# Altium footprint library libreriaPcb.PcbLib: 683 footprints (part 25 of 44)
Each footprint in its own frame and in the unit in brackets; x right, y up, seen from the top. Pads: shape width x height; smd on the part's side, far side on the other; paste and mask are expansions set on the pad; w line width, h text height; cw(c..) or ccw(c..) is an arc to the next point about the centre after c.
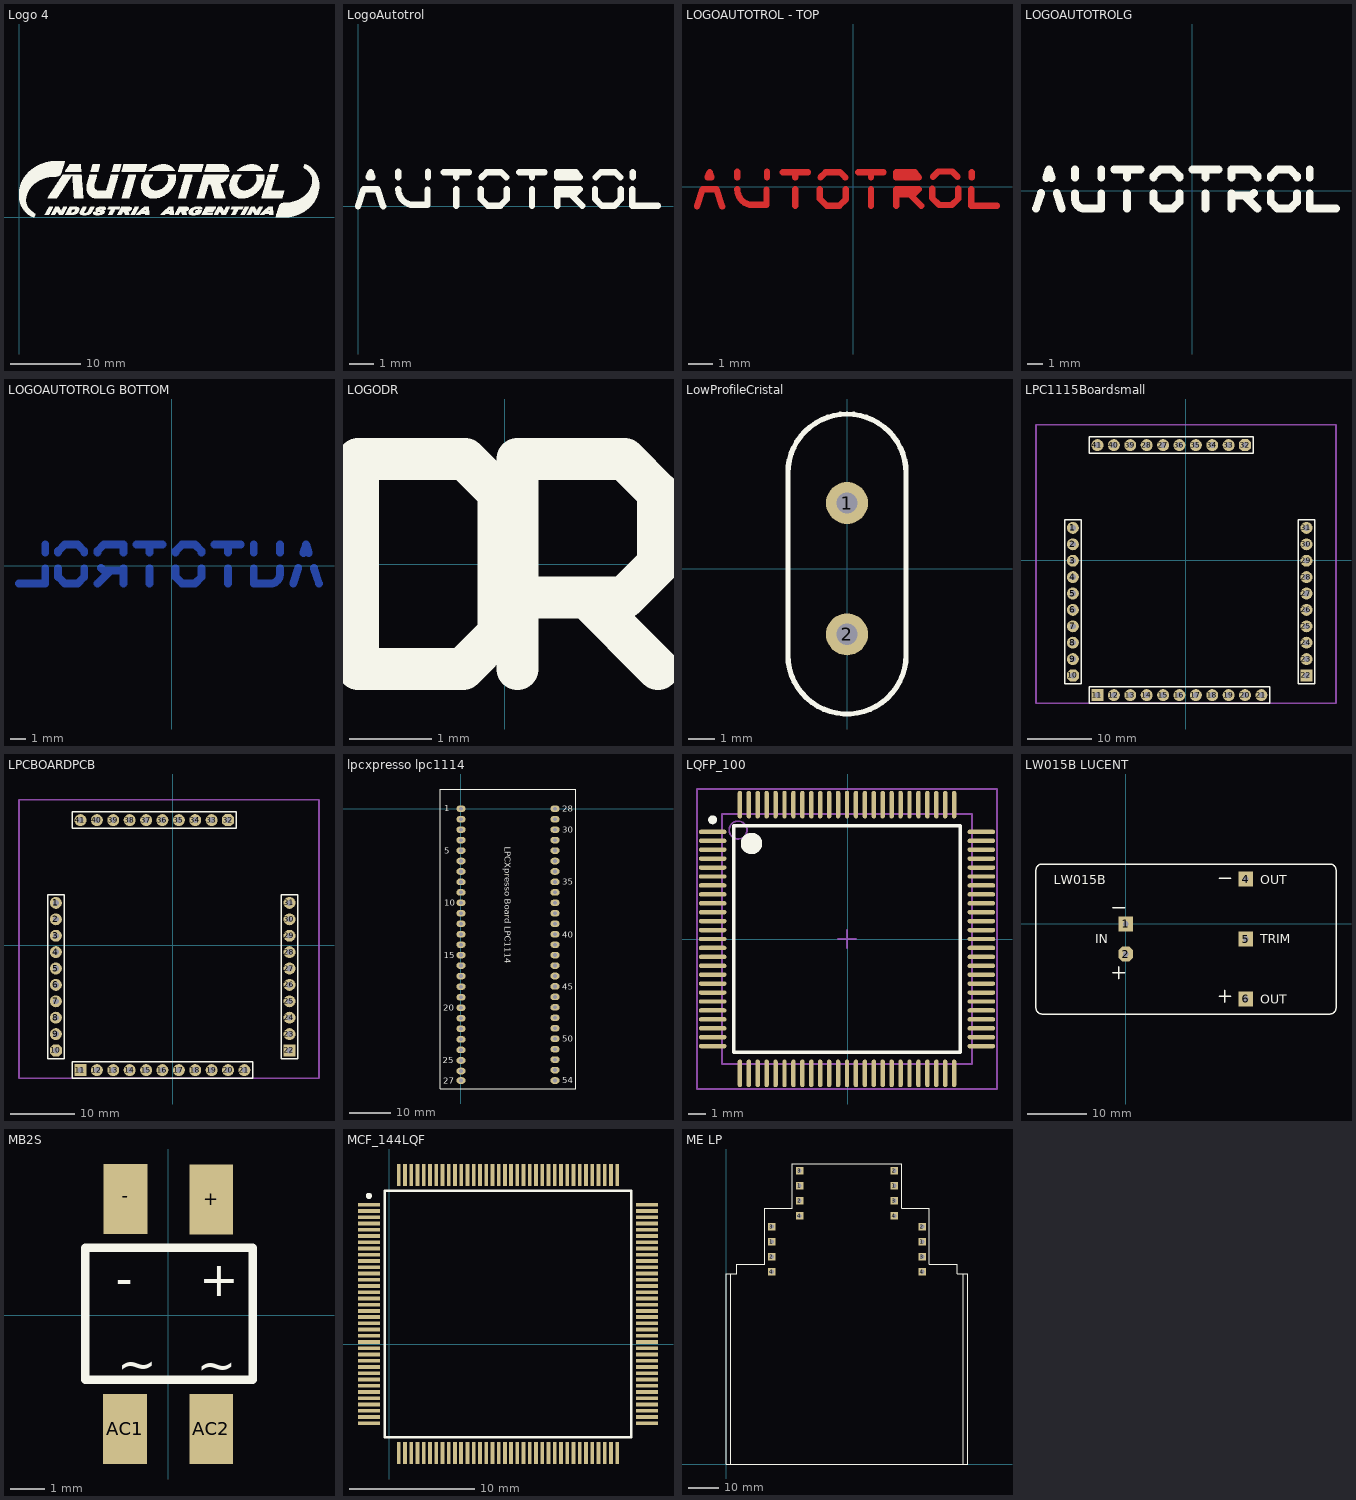
[diagram p24: the footprints below, top view; thin cyan lines are the x and y axes]

## Logo 4 [mm]
Top Overlay:
  drawing of 3600 lines, arcs and shapes, not listed

## LOGO_AUTO [mm]
height 1
Top Overlay:
  lines w0.508: 0,0 0.33,1.016 ; 0.66,1.981 0.838,2.54 1.016,1.981 ; 1.346,1.016 1.676,0 ; 2.54,0.584 2.54,0.991 ; 2.54,2.007 2.54,2.54 ; 2.549,0.609 ccw(c3.124,0.576) 3.124,0 4.242,0 4.242,0.991 ; 4.242,2.007 4.242,2.54 ; 5.08,2.54 6.782,2.54 ; 5.918,0 5.918,0.991 ; 5.918,2.007 5.918,2.54 ; 7.62,0.432 8.052,0 ; 7.62,0.457 7.62,0.991 ; 7.62,2.007 7.62,2.083 ; 7.62,2.108 8.052,2.54 8.865,2.54 ; 8.077,0 8.89,0 9.322,0.432 ; 8.89,2.54 9.322,2.108 ; 9.322,0.457 9.322,0.991 ; 9.322,2.007 9.322,2.083 ; 10.16,2.54 11.862,2.54 ; 10.998,0 10.998,0.991 ; 10.998,2.007 10.998,2.54 ; 12.7,0 12.7,0.991 ; 12.7,0.838 13.97,0.838 14.148,1.016 ; 12.7,2.007 12.7,2.54 13.97,2.54 14.376,2.134 14.376,2.007 ; 13.564,0.813 14.376,0 ; 15.24,0.432 15.672,0 ; 15.24,0.457 15.24,0.991 ; 15.24,2.007 15.24,2.083 ; 15.24,2.108 15.672,2.54 16.485,2.54 ; 15.697,0 16.51,0 16.942,0.432 ; 16.51,2.54 16.942,2.108 ; 16.942,0.457 16.942,0.991 ; 16.942,2.007 16.942,2.083 ; 17.78,0.991 17.78,0 19.482,0 ; 17.78,2.007 17.78,2.54 ; 2183.976,2674.027 2184.306,2675.043 ; 2184.636,2676.008 2184.814,2676.567 2184.992,2676.008 ; 2185.322,2675.043 2185.652,2674.027 ; 2186.516,2674.611 2186.516,2675.018 ; 2186.516,2676.034 2186.516,2676.567 ; 2186.525,2674.636 ccw(c2187.1,2674.603) 2187.1,2674.027 2188.218,2674.027 2188.218,2675.018 ; 2188.218,2676.034 2188.218,2676.567 ; 2189.056,2676.567 2190.758,2676.567 ; 2189.894,2674.027 2189.894,2675.018 ; 2189.894,2676.034 2189.894,2676.567 ; 2191.596,2674.459 2192.028,2674.027 ; 2191.596,2674.484 2191.596,2675.018 ; 2191.596,2676.034 2191.596,2676.11 ; 2191.596,2676.135 2192.028,2676.567 2192.841,2676.567 ; 2192.053,2674.027 2192.866,2674.027 2193.298,2674.459 ; 2192.866,2676.567 2193.298,2676.135 ; 2193.298,2674.484 2193.298,2675.018 ; 2193.298,2676.034 2193.298,2676.11 ; 2194.136,2676.567 2195.838,2676.567 ; 2194.974,2674.027 2194.974,2675.018 ; 2194.974,2676.034 2194.974,2676.567 ; 2196.676,2674.027 2196.676,2675.018 ; 2196.676,2674.865 2197.946,2674.865 2198.124,2675.043 ; 2196.676,2676.034 2196.676,2676.567 2197.946,2676.567 2198.352,2676.161 2198.352,2676.034 ; 2197.54,2674.84 2198.352,2674.027 ; 2199.216,2674.459 2199.648,2674.027 ; 2199.216,2674.484 2199.216,2675.018 ; 2199.216,2676.034 2199.216,2676.11 ; 2199.216,2676.135 2199.648,2676.567 2200.461,2676.567 ; 2199.673,2674.027 2200.486,2674.027 2200.918,2674.459 ; 2200.486,2676.567 2200.918,2676.135 ; 2200.918,2674.484 2200.918,2675.018 ; 2200.918,2676.034 2200.918,2676.11 ; 2201.756,2675.018 2201.756,2674.027 2203.458,2674.027 ; 2201.756,2676.034 2201.756,2676.567 ; 2321.007,1659.943 2321.337,1660.959 ; 2321.667,1661.924 2321.845,1662.483 2322.023,1661.924 ; 2322.353,1660.959 2322.683,1659.943 ; 2323.547,1660.527 2323.547,1660.934 ; 2323.547,1661.95 2323.547,1662.483 ; 2323.556,1660.552 ccw(c2324.131,1660.519) 2324.131,1659.943 2325.249,1659.943 2325.249,1660.934 ; 2325.249,1661.95 2325.249,1662.483 ; 2326.087,1662.483 2327.789,1662.483 ; 2326.925,1659.943 2326.925,1660.934 ; 2326.925,1661.95 2326.925,1662.483 ; 2328.627,1660.375 2329.059,1659.943 ; 2328.627,1660.4 2328.627,1660.934 ; 2328.627,1661.95 2328.627,1662.026 ; 2328.627,1662.051 2329.059,1662.483 2329.872,1662.483 ; 2329.084,1659.943 2329.897,1659.943 2330.329,1660.375 ; 2329.897,1662.483 2330.329,1662.051 ; 2330.329,1660.4 2330.329,1660.934 ; 2330.329,1661.95 2330.329,1662.026 ; 2331.167,1662.483 2332.869,1662.483 ; 2332.005,1659.943 2332.005,1660.934 ; 2332.005,1661.95 2332.005,1662.483 ; 2333.707,1659.943 2333.707,1660.934 ; 2333.707,1660.781 2334.977,1660.781 2335.155,1660.959 ; 2333.707,1661.95 2333.707,1662.483 2334.977,1662.483 2335.383,1662.077 2335.383,1661.95 ; 2334.571,1660.756 2335.383,1659.943 ; 2336.247,1660.375 2336.679,1659.943 ; 2336.247,1660.4 2336.247,1660.934 ; 2336.247,1661.95 2336.247,1662.026 ; 2336.247,1662.051 2336.679,1662.483 2337.492,1662.483 ; 2336.704,1659.943 2337.517,1659.943 2337.949,1660.375 ; 2337.517,1662.483 2337.949,1662.051 ; 2337.949,1660.4 2337.949,1660.934 ; 2337.949,1661.95 2337.949,1662.026 ; 2338.787,1660.934 2338.787,1659.943 2340.489,1659.943 ; 2338.787,1661.95 2338.787,1662.483

## LogoAutotrol [mm]
Top Overlay:
  lines w0.254: 0,0 0.229,0.686 0.787,0.686 1.016,0 ; 1.625,0.686 ccw(c2.261,0.686) 2.112,0.068 2.802,0.068 2.802,0.677 ; 1.626,1.168 1.626,1.397 ; 2.819,1.168 2.819,1.397 ; 3.454,1.372 3.962,1.372 ; 3.962,0.025 3.962,0.686 ; 3.962,1.168 3.962,1.372 ; 4.47,1.372 3.962,1.372 ; 4.953,0.686 4.953,0.305 5.232,0.025 5.74,0.025 5.994,0.279 5.994,0.686 ; 4.978,1.168 5.182,1.372 5.766,1.372 5.969,1.168 ; 6.502,1.372 7.01,1.372 ; 7.01,0.025 7.01,0.686 ; 7.01,1.168 7.01,1.372 ; 7.518,1.372 7.01,1.372 ; 8.026,0.025 8.026,0.686 8.941,0.686 8.661,0.406 ; 8.026,0.483 8.585,0.483 8.661,0.406 ; 9.042,0.025 8.661,0.406 ; 9.55,0.686 9.55,0.305 9.83,0.025 10.338,0.025 10.592,0.279 10.592,0.686 ; 9.576,1.168 9.779,1.372 10.363,1.372 10.566,1.168 ; 11.049,0.686 11.049,0.025 12.09,0.025 ; 11.074,1.168 11.074,1.372 ; 0.432,1.168 0.584,1.168 ; 0.432,1.168 0.508,1.372 0.584,1.168 ; 0.432,1.168 0.584,1.168 ; 8.026,1.168 8.026,1.372 8.788,1.372 8.941,1.168 8.026,1.168

## LOGOAUTOTROL - TOP [mm]
Top Layer:
  lines w0.254: -6.3,-0.8 -6.071,-0.114 -5.513,-0.114 -5.284,-0.8 ; -4.675,-0.114 ccw(c-4.039,-0.114) -4.188,-0.732 -3.498,-0.732 -3.498,-0.123 ; -4.674,0.368 -4.674,0.597 ; -3.481,0.368 -3.481,0.597 ; -2.846,0.572 -2.338,0.572 ; -2.338,-0.775 -2.338,-0.114 ; -2.338,0.368 -2.338,0.572 ; -1.83,0.572 -2.338,0.572 ; -1.347,-0.114 -1.347,-0.495 -1.068,-0.775 -0.56,-0.775 -0.306,-0.521 -0.306,-0.114 ; -1.322,0.368 -1.118,0.572 -0.534,0.572 -0.331,0.368 ; 0.202,0.572 0.71,0.572 ; 0.71,-0.775 0.71,-0.114 ; 0.71,0.368 0.71,0.572 ; 1.218,0.572 0.71,0.572 ; 1.726,-0.775 1.726,-0.114 2.641,-0.114 2.361,-0.394 ; 1.726,-0.317 2.285,-0.317 2.361,-0.394 ; 2.742,-0.775 2.361,-0.394 ; 3.184,-0.083 3.184,-0.464 3.463,-0.743 3.971,-0.743 4.225,-0.489 4.225,-0.083 ; 3.209,0.4 3.413,0.603 3.997,0.603 4.2,0.4 ; 4.749,-0.114 4.749,-0.775 5.79,-0.775 ; 4.774,0.368 4.774,0.572 ; -5.868,0.368 -5.716,0.368 ; -5.868,0.368 -5.716,0.368 ; -5.868,0.368 -5.792,0.572 -5.716,0.368 ; 1.726,0.368 2.641,0.368 2.488,0.572 1.726,0.572 1.726,0.368

## LOGOAUTOTROLG [mm]
Top Overlay:
  lines w0.508: -10.16,-1.143 -9.83,-0.127 ; -9.5,0.838 -9.322,1.397 -9.144,0.838 ; -8.814,-0.127 -8.484,-1.143 ; -7.62,-0.559 -7.62,-0.152 ; -7.62,0.864 -7.62,1.397 ; -7.611,-0.534 ccw(c-7.036,-0.567) -7.036,-1.143 -5.918,-1.143 -5.918,-0.152 ; -5.918,0.864 -5.918,1.397 ; -5.08,1.397 -3.378,1.397 ; -4.242,-1.143 -4.242,-0.152 ; -4.242,0.864 -4.242,1.397 ; -2.54,-0.711 -2.108,-1.143 ; -2.54,-0.686 -2.54,-0.152 ; -2.54,0.864 -2.54,0.94 ; -2.54,0.965 -2.108,1.397 -1.295,1.397 ; -2.083,-1.143 -1.27,-1.143 -0.838,-0.711 ; -1.27,1.397 -0.838,0.965 ; -0.838,-0.686 -0.838,-0.152 ; -0.838,0.864 -0.838,0.94 ; 0,1.397 1.702,1.397 ; 0.838,-1.143 0.838,-0.152 ; 0.838,0.864 0.838,1.397 ; 2.54,-1.143 2.54,-0.152 ; 2.54,-0.305 3.81,-0.305 3.988,-0.127 ; 2.54,0.864 2.54,1.397 3.81,1.397 4.216,0.991 4.216,0.864 ; 3.404,-0.33 4.216,-1.143 ; 5.08,-0.711 5.512,-1.143 ; 5.08,-0.686 5.08,-0.152 ; 5.08,0.864 5.08,0.94 ; 5.08,0.965 5.512,1.397 6.325,1.397 ; 5.537,-1.143 6.35,-1.143 6.782,-0.711 ; 6.35,1.397 6.782,0.965 ; 6.782,-0.686 6.782,-0.152 ; 6.782,0.864 6.782,0.94 ; 7.62,-0.152 7.62,-1.143 9.322,-1.143 ; 7.62,0.864 7.62,1.397

## LOGOAUTOTROLG BOTTOM [mm]
height 23.3
Bottom Layer:
  lines w0.508: -9.922,-1.143 -8.22,-1.143 -8.22,-0.152 ; -8.22,0.864 -8.22,1.397 ; -7.382,-0.711 -6.95,-1.143 -6.137,-1.143 ; -7.382,-0.686 -7.382,-0.152 ; -7.382,0.864 -7.382,0.94 ; -7.382,0.965 -6.95,1.397 ; -6.925,1.397 -6.112,1.397 -5.68,0.965 ; -6.112,-1.143 -5.68,-0.711 ; -5.68,-0.686 -5.68,-0.152 ; -5.68,0.864 -5.68,0.94 ; -4.816,-1.143 -4.004,-0.33 ; -4.816,0.864 -4.816,0.991 -4.41,1.397 -3.14,1.397 -3.14,0.864 ; -4.588,-0.127 -4.41,-0.305 -3.14,-0.305 ; -3.14,-1.143 -3.14,-0.152 ; -2.302,1.397 -0.6,1.397 ; -1.438,-1.143 -1.438,-0.152 ; -1.438,0.864 -1.438,1.397 ; 0.238,-0.711 0.67,-1.143 1.483,-1.143 ; 0.238,-0.686 0.238,-0.152 ; 0.238,0.864 0.238,0.94 ; 0.238,0.965 0.67,1.397 ; 0.695,1.397 1.508,1.397 1.94,0.965 ; 1.508,-1.143 1.94,-0.711 ; 1.94,-0.686 1.94,-0.152 ; 1.94,0.864 1.94,0.94 ; 2.778,1.397 4.48,1.397 ; 3.642,-1.143 3.642,-0.152 ; 3.642,0.864 3.642,1.397 ; 5.318,-0.152 5.318,-1.143 6.436,-1.143 ccw(c6.436,-0.567) 7.011,-0.534 ; 5.318,0.864 5.318,1.397 ; 7.02,-0.559 7.02,-0.152 ; 7.02,0.864 7.02,1.397 ; 7.884,-1.143 8.214,-0.127 ; 8.544,0.838 8.722,1.397 8.9,0.838 ; 9.23,-0.127 9.56,-1.143

## LOGODR [mm]
Top Overlay:
  lines w0.508: -0.508,1.27 -1.778,1.27 -1.778,-1.27 -0.508,-1.27 -0.076,-0.838 -0.076,0.864 -0.483,1.27 ; 0.152,-1.27 0.152,1.27 1.422,1.27 ; 0.356,-0.406 1.448,-0.406 1.854,0 1.854,0.864 1.448,1.27 ; 0.991,-0.406 1.854,-1.27

## LowProfileCristal [mm]
pads (2):
  round 1.6 hole 0.813: 1(0,2.5) 2(0,-2.5)
Top Overlay:
  lines w0.2: -2.25,-3.294 ccw(c0,-3.282) 2.25,-3.29 2.25,3.625 ccw(c0,3.638) -2.25,3.625 -2.25,-3.294
3D body: height 1, standoff 0, extent -2.277,-5.586 2.2,5.916
3D body: height 4, standoff 1, extent -2.044,-5.368 1.98,5.669

## LPC1115Boardsmall [mm]
pads (41):
  round 1.85 hole 0.9 paste+0: 1(-17.45,4.978) 2(-17.45,2.438) 3(-17.45,-0.102) 4(-17.45,-2.642) 5(-17.45,-5.182) 6(-17.45,-7.722) 7(-17.45,-10.262) 8(-17.45,-12.802) 9(-17.45,-15.342) 27(-3.48,17.805) 28(-6.02,17.805) 33(6.68,17.805) 34(4.14,17.805) 35(1.6,17.805) 36(-0.94,17.805) 39(-8.56,17.805) 40(-11.1,17.805) 41(-13.64,17.805)
  oct 1.85x1.85 hole 0.9: 10(-17.45,-17.882)
  rect 1.85x1.85 hole 0.9: 11(-13.64,-20.93) 22(18.745,-17.882)
  round 1.85 hole 0.9: 12(-11.1,-20.93) 13(-8.56,-20.93) 14(-6.02,-20.93) 15(-3.48,-20.93) 16(-0.94,-20.93) 17(1.6,-20.93) 18(4.14,-20.93) 19(6.68,-20.93) 20(9.22,-20.93) 21(11.76,-20.93) 23(18.745,-15.342) 24(18.745,-12.802) 25(18.745,-10.262) 26(18.745,-7.722) 27(18.745,-5.182) 28(18.745,-2.642) 29(18.745,-0.102) 30(18.745,2.438) 31(18.745,4.978)
  oct 1.85x1.85 hole 0.9 paste+0: 32(9.22,17.805)
Top Layer:
  lines w0.5: -17.704,-12.802 cw(c-17.577,-12.802) -17.577,-12.675 ; -17.704,-10.262 cw(c-17.577,-10.262) -17.577,-10.135
Top Overlay:
  lines w0.2: -18.72,-19.152 -18.72,6.248 -16.18,6.248 -16.18,-17.247 -16.18,-19.152 -18.72,-19.152 ; -14.91,-22.2 13.03,-22.2 13.03,-19.66 -13.005,-19.66 -14.91,-19.66 -14.91,-22.2 ; -14.91,16.535 8.585,16.535 10.49,16.535 10.49,19.075 -14.91,19.075 -14.91,16.535 ; 17.475,-19.152 20.015,-19.152 20.015,6.248 17.475,6.248 17.475,-17.247 17.475,-19.152
Mechanical 1:
  lines w0.254: -17.45,-22.2 20.015,-22.2 ; -13.64,17.805 -13.386,17.805 -13.132,18.059 ; -23.165,-22.2 -23.165,20.98 23.317,20.98 23.317,-22.2 -23.165,-22.2
3D body: height 7.35, standoff 7.25, extent 0.435,-3.299 0.835,-2.899
3D body: height 7, standoff 6, extent 5.847,-10.897 6.147,-9.144
3D body: height 7, standoff 6, extent 5.362,-10.884 5.662,-9.131
3D body: height 7, standoff 6, extent 4.854,-10.897 5.154,-9.144
3D body: height 7, standoff 6, extent 4.346,-10.897 4.646,-9.144
3D body: height 7, standoff 6, extent 3.838,-10.897 4.138,-9.144
3D body: height 7, standoff 6, extent 3.358,-10.897 3.658,-9.144
3D body: height 7, standoff 6, extent 2.847,-10.897 3.147,-9.144
3D body: height 7, standoff 6, extent 2.339,-10.897 2.639,-9.144
3D body: height 7, standoff 6, extent 1.857,-10.897 2.157,-9.144
3D body: height 7, standoff 6, extent 1.349,-10.897 1.649,-9.144
3D body: height 7, standoff 6, extent 0.838,-10.897 1.138,-9.144
3D body: height 7, standoff 6, extent 0.356,-10.897 0.656,-9.144
3D body: height 6.25, standoff 6, extent 5.844,-2.007 6.144,-0.254
3D body: height 6.25, standoff 6, extent 5.336,-2.007 5.636,-0.254
3D body: height 6.25, standoff 6, extent 4.854,-2.007 5.154,-0.254
3D body: height 6.25, standoff 6, extent 4.346,-2.007 4.646,-0.254
3D body: height 6.25, standoff 6, extent 3.863,-2.007 4.163,-0.254
3D body: height 6.25, standoff 6, extent 3.355,-2.007 3.655,-0.254
3D body: height 6.25, standoff 6, extent 2.845,-2.007 3.145,-0.254
3D body: height 6.25, standoff 6, extent 2.365,-2.007 2.665,-0.254
3D body: height 6.25, standoff 6, extent 1.857,-2.007 2.157,-0.254
3D body: height 6.25, standoff 6, extent 1.349,-2.007 1.649,-0.254
3D body: height 6.25, standoff 6, extent 0.866,-2.007 1.166,-0.254
3D body: height 6.25, standoff 6, extent 0.335,-2.007 0.635,-0.254
3D body: height 7, standoff 6, extent 6.782,-8.456 8.534,-8.156
3D body: height 7, standoff 6, extent 6.782,-7.976 8.534,-7.676
3D body: height 7, standoff 6, extent 6.782,-7.465 8.534,-7.165
3D body: height 7, standoff 6, extent 6.795,-6.957 8.547,-6.657
3D body: height 7, standoff 6, extent 6.795,-6.475 8.547,-6.175
3D body: height 7, standoff 6, extent 6.794,-5.969 8.547,-5.669
3D body: height 7, standoff 6, extent 6.794,-5.461 8.547,-5.161
3D body: height 7, standoff 6, extent 6.795,-4.951 8.547,-4.651
3D body: height 7, standoff 6, extent 6.795,-4.468 8.547,-4.168
3D body: height 7, standoff 6, extent 6.795,-3.96 8.547,-3.66
3D body: height 7, standoff 6, extent 6.782,-3.454 8.534,-3.154
3D body: height 6.25, standoff 6, extent 6.794,-2.972 8.547,-2.672
3D body: height 7, standoff 6, extent -2.032,-2.972 -0.279,-2.672
3D body: height 7, standoff 6, extent -2.032,-3.454 -0.279,-3.154
3D body: height 7, standoff 6, extent -2.032,-3.962 -0.279,-3.662
3D body: height 7, standoff 6, extent -2.032,-4.468 -0.279,-4.168
3D body: height 7, standoff 6, extent -2.032,-4.953 -0.279,-4.653
3D body: height 7, standoff 6, extent -2.032,-5.459 -0.279,-5.159
3D body: height 7, standoff 6, extent -2.032,-5.967 -0.279,-5.667
3D body: height 7, standoff 6, extent -2.032,-6.475 -0.279,-6.175
3D body: height 7, standoff 6, extent -2.032,-6.957 -0.279,-6.657
3D body: height 7, standoff 6, extent -2.032,-7.465 -0.279,-7.165
3D body: height 7, standoff 6, extent -2.032,-7.95 -0.279,-7.65
3D body: height 7, standoff 6, extent -2.032,-8.453 -0.279,-8.153
3D body: height 11.1, standoff 8.1, extent 3.613,4.325 4.413,5.125
3D body: height 11.1, standoff 8.1, extent 3.613,6.865 4.413,7.665
3D body: height 11.1, standoff 8.1, extent 3.613,9.405 4.413,10.205
3D body: height 11.1, standoff 8.1, extent 3.613,11.945 4.413,12.745
3D body: height 11.1, standoff 8.1, extent 3.613,14.485 4.413,15.285
3D body: height 8, standoff 6, extent 2.876,3.404 5.15,16.002
3D body: height 7, standoff 6, extent -16.972,7.681 -10.962,13.691
3D body: height 8.9, standoff 8.1, extent -15.572,9.202 -12.572,12.201
3D body: height 8.1, standoff 7, extent -16.975,7.671 -10.965,13.681
3D body: height 8.2, standoff 8.1, extent -16.752,12.502 -15.752,13.501
3D body: height 8.2, standoff 8.1, extent -12.202,12.472 -11.202,13.471
3D body: height 8.2, standoff 8.1, extent -12.152,7.942 -11.152,8.941
3D body: height 8.2, standoff 8.1, extent -16.702,7.972 -15.702,8.971
3D body: height 7, standoff 6, extent -3.519,9.127 -0.919,10.727
3D body: height 7, standoff 6, extent -0.919,9.127 -0.619,10.727
3D body: height 7, standoff 6, extent -3.819,9.127 -3.519,10.727
3D body: height -2, standoff -6, extent -10.65,-12.694 -5.499,-1.647
3D body: height 7, standoff 6, extent -17.234,16.886 -15.634,19.486
3D body: height 7, standoff 6, extent -17.234,19.486 -15.634,19.786
3D body: height 7, standoff 6, extent -17.234,16.586 -15.634,16.886
3D body: height 7, standoff 6, extent -3.519,11.667 -0.919,13.267
3D body: height 7, standoff 6, extent -0.919,11.667 -0.619,13.267
3D body: height 7, standoff 6, extent -3.819,11.667 -3.519,13.267
3D body: height 7, standoff 6, extent -15.706,-7.761 -14.106,-5.161
3D body: height 7, standoff 6, extent -15.706,-5.161 -14.106,-4.861
3D body: height 7, standoff 6, extent -15.706,-8.061 -14.106,-7.761
3D body: height 7, standoff 6, extent -20.532,-7.761 -18.932,-5.161
3D body: height 7, standoff 6, extent -20.532,-5.161 -18.932,-4.861
3D body: height 7, standoff 6, extent -20.532,-8.061 -18.932,-7.761
3D body: height 7, standoff 6, extent -12.536,-6.494 -9.936,-4.894
3D body: height 7, standoff 6, extent -9.936,-6.494 -9.636,-4.894
3D body: height 7, standoff 6, extent -12.836,-6.494 -12.536,-4.894
3D body: height 7, standoff 6, extent -12.518,-9.279 -9.918,-7.68
3D body: height 7, standoff 6, extent -12.818,-9.279 -12.518,-7.68
3D body: height 7, standoff 6, extent -9.918,-9.279 -9.618,-7.68
3D body: height 7, standoff 6, extent 17.602,10.16 20.904,11.786
3D body: height 7, standoff 6, extent 17.526,7.353 17.826,8.953
3D body: height 7, standoff 6, extent 20.426,7.353 20.726,8.953
3D body: height 7, standoff 6, extent 17.826,7.353 20.426,8.953
3D body: height 7, standoff 6, extent 17.602,14.605 20.904,16.231
3D body: height 7, standoff 6, extent 17.251,17.387 17.551,18.986
3D body: height 7, standoff 6, extent 14.351,17.387 14.651,18.986
3D body: height 7, standoff 6, extent 14.651,17.387 17.251,18.986
3D body: height 7, standoff 6, extent 16.815,14.586 17.6,16.25
3D body: height 7, standoff 6, extent 20.893,14.586 21.678,16.25
3D body: height 7, standoff 6, extent 16.803,10.141 17.588,11.805
3D body: height 7, standoff 6, extent 20.893,10.141 21.678,11.805
3D body: height 6, standoff 5, extent -23.012,-22.149 23.063,20.879
3D body: height -0.2, standoff -6, extent 17.366,-19.257 20.015,6.248
3D body: height -0.2, standoff -6, extent -18.698,-19.232 -16.049,6.274
3D body: height -0.2, standoff -6, extent -14.81,16.608 10.695,19.257
3D body: height -0.2, standoff -6, extent -15.073,-22.381 13.081,-19.732
3D body: height 7.25, standoff 6, extent -0.249,-9.063 6.751,-2.063

## LPCBOARDPCB [mm]
pads (41):
  round 1.85 hole 0.9 paste+0: 1(-18.098,6.54) 2(-18.098,4) 3(-18.098,1.46) 4(-18.098,-1.079) 5(-18.098,-3.619) 6(-18.098,-6.159) 7(-18.098,-8.7) 8(-18.098,-11.239) 9(-18.098,-13.779) 33(6.032,19.367) 34(3.492,19.367) 35(0.953,19.367) 36(-1.587,19.367) 37(-4.127,19.367) 38(-6.667,19.367) 39(-9.207,19.367) 40(-11.747,19.367) 41(-14.287,19.367)
  oct 1.85x1.85 hole 0.9: 10(-18.098,-16.319)
  rect 1.85x1.85 hole 0.9: 11(-14.287,-19.367) 22(18.098,-16.319)
  round 1.85 hole 0.9: 12(-11.747,-19.367) 13(-9.207,-19.367) 14(-6.667,-19.367) 15(-4.127,-19.367) 16(-1.587,-19.367) 17(0.953,-19.367) 18(3.492,-19.367) 19(6.032,-19.367) 20(8.572,-19.367) 21(11.112,-19.367) 23(18.098,-13.779) 24(18.098,-11.239) 25(18.098,-8.7) 26(18.098,-6.159) 27(18.098,-3.619) 28(18.098,-1.079) 29(18.098,1.46) 30(18.098,4) 31(18.098,6.54)
  oct 1.85x1.85 hole 0.9 paste+0: 32(8.572,19.367)
Top Layer:
  lines w0.5: -18.351,-11.239 cw(c-18.224,-11.239) -18.224,-11.112 ; -18.351,-8.7 cw(c-18.224,-8.7) -18.224,-8.572
Top Overlay:
  lines w0.2: -19.367,-17.59 -16.828,-17.59 -16.828,-15.684 -16.828,7.81 -19.367,7.81 -19.367,-17.59 ; -15.557,-20.637 -15.557,-18.098 -13.652,-18.098 12.383,-18.098 12.383,-20.637 -15.557,-20.637 ; -15.557,18.098 -15.557,20.637 9.842,20.637 9.842,18.098 7.938,18.098 -15.557,18.098 ; 16.828,-17.59 16.828,-15.684 16.828,7.81 19.367,7.81 19.367,-17.59 16.828,-17.59
Mechanical 1:
  lines w0.254: -18.098,-20.637 19.367,-20.637 ; -14.287,19.367 -14.034,19.367 -13.779,19.621 ; -23.812,-20.637 22.669,-20.637 22.669,22.543 -23.812,22.543 -23.812,-20.637
3D body: height -0.2, standoff -6, extent -15.721,-20.819 12.433,-18.17
3D body: height -0.2, standoff -6, extent -15.458,18.17 10.048,20.819
3D body: height -0.2, standoff -6, extent -19.346,-17.67 -16.697,7.836
3D body: height -0.2, standoff -6, extent 16.719,-17.695 19.367,7.81
3D body: height 6, standoff 5, extent -23.66,-20.587 22.415,22.441
3D body: height 7, standoff 6, extent 20.245,11.703 21.03,13.367
3D body: height 7, standoff 6, extent 16.156,11.703 16.941,13.367
3D body: height 7, standoff 6, extent 20.245,16.148 21.03,17.812
3D body: height 7, standoff 6, extent 16.167,16.148 16.952,17.812
3D body: height 7, standoff 6, extent 14.004,18.949 16.603,20.549
3D body: height 7, standoff 6, extent 13.704,18.949 14.004,20.549
3D body: height 7, standoff 6, extent 16.603,18.949 16.903,20.549
3D body: height 7, standoff 6, extent 16.954,16.167 20.256,17.793
3D body: height 7, standoff 6, extent 17.179,8.915 19.778,10.515
3D body: height 7, standoff 6, extent 19.778,8.915 20.078,10.515
3D body: height 7, standoff 6, extent 16.879,8.915 17.179,10.515
3D body: height 7, standoff 6, extent 16.954,11.722 20.256,13.348
3D body: height 7, standoff 6, extent -10.565,-7.717 -10.265,-6.117
3D body: height 7, standoff 6, extent -13.465,-7.717 -13.165,-6.117
3D body: height 7, standoff 6, extent -13.165,-7.717 -10.565,-6.117
3D body: height 7, standoff 6, extent -13.484,-4.932 -13.184,-3.332
3D body: height 7, standoff 6, extent -10.584,-4.932 -10.284,-3.332
3D body: height 7, standoff 6, extent -13.184,-4.932 -10.584,-3.332
3D body: height 7, standoff 6, extent -21.179,-6.499 -19.579,-6.199
3D body: height 7, standoff 6, extent -21.179,-3.599 -19.579,-3.299
3D body: height 7, standoff 6, extent -21.179,-6.199 -19.579,-3.599
3D body: height 7, standoff 6, extent -16.353,-6.499 -14.753,-6.199
3D body: height 7, standoff 6, extent -16.353,-3.599 -14.753,-3.299
3D body: height 7, standoff 6, extent -16.353,-6.199 -14.753,-3.599
3D body: height 7, standoff 6, extent -4.467,13.229 -4.167,14.829
3D body: height 7, standoff 6, extent -1.567,13.229 -1.267,14.829
3D body: height 7, standoff 6, extent -4.167,13.229 -1.567,14.829
3D body: height 7, standoff 6, extent -17.881,18.149 -16.281,18.449
3D body: height 7, standoff 6, extent -17.881,21.048 -16.281,21.348
3D body: height 7, standoff 6, extent -17.881,18.449 -16.281,21.048
3D body: height -2, standoff -6, extent -11.297,-11.132 -6.147,-0.085
3D body: height 7, standoff 6, extent -4.467,10.689 -4.167,12.289
3D body: height 7, standoff 6, extent -1.567,10.689 -1.267,12.289
3D body: height 7, standoff 6, extent -4.167,10.689 -1.567,12.289
3D body: height 8.2, standoff 8.1, extent -17.349,9.534 -16.349,10.534
3D body: height 8.2, standoff 8.1, extent -12.799,9.504 -11.799,10.504
3D body: height 8.2, standoff 8.1, extent -12.849,14.034 -11.849,15.034
3D body: height 8.2, standoff 8.1, extent -17.399,14.064 -16.399,15.064
3D body: height 8.1, standoff 7, extent -17.623,9.233 -11.613,15.243
3D body: height 8.9, standoff 8.1, extent -16.219,10.764 -13.219,13.763
3D body: height 7, standoff 6, extent -17.619,9.243 -11.609,15.254
3D body: height 8, standoff 6, extent 2.228,4.966 4.503,17.564
3D body: height 11.1, standoff 8.1, extent 2.966,16.047 3.766,16.847
3D body: height 11.1, standoff 8.1, extent 2.966,13.507 3.766,14.307
3D body: height 11.1, standoff 8.1, extent 2.966,10.967 3.766,11.767
3D body: height 11.1, standoff 8.1, extent 2.966,8.427 3.766,9.227
3D body: height 11.1, standoff 8.1, extent 2.966,5.887 3.766,6.687
3D body: height 7, standoff 6, extent -2.68,-6.891 -0.927,-6.591
3D body: height 7, standoff 6, extent -2.68,-6.388 -0.927,-6.088
3D body: height 7, standoff 6, extent -2.68,-5.903 -0.927,-5.603
3D body: height 7, standoff 6, extent -2.68,-5.395 -0.927,-5.095
3D body: height 7, standoff 6, extent -2.68,-4.912 -0.927,-4.613
3D body: height 7, standoff 6, extent -2.68,-4.404 -0.927,-4.105
3D body: height 7, standoff 6, extent -2.68,-3.896 -0.927,-3.597
3D body: height 7, standoff 6, extent -2.68,-3.391 -0.927,-3.091
3D body: height 7, standoff 6, extent -2.68,-2.906 -0.927,-2.606
3D body: height 7, standoff 6, extent -2.68,-2.4 -0.927,-2.1
3D body: height 7, standoff 6, extent -2.68,-1.892 -0.927,-1.592
3D body: height 7, standoff 6, extent -2.68,-1.41 -0.927,-1.11
3D body: height 6.25, standoff 6, extent 6.147,-1.41 7.899,-1.11
3D body: height 7, standoff 6, extent 6.134,-1.892 7.887,-1.592
3D body: height 7, standoff 6, extent 6.147,-2.398 7.899,-2.098
3D body: height 7, standoff 6, extent 6.147,-2.906 7.899,-2.606
3D body: height 7, standoff 6, extent 6.147,-3.388 7.899,-3.088
3D body: height 7, standoff 6, extent 6.147,-3.899 7.899,-3.599
3D body: height 7, standoff 6, extent 6.147,-4.407 7.899,-4.107
3D body: height 7, standoff 6, extent 6.147,-4.912 7.9,-4.612
3D body: height 7, standoff 6, extent 6.147,-5.395 7.899,-5.095
3D body: height 7, standoff 6, extent 6.134,-5.903 7.887,-5.603
3D body: height 7, standoff 6, extent 6.134,-6.413 7.887,-6.114
3D body: height 7, standoff 6, extent 6.134,-6.894 7.887,-6.594
3D body: height 6.25, standoff 6, extent -0.313,-0.445 -0.013,1.308
3D body: height 6.25, standoff 6, extent 0.218,-0.445 0.518,1.308
3D body: height 6.25, standoff 6, extent 0.701,-0.445 1.001,1.308
3D body: height 6.25, standoff 6, extent 1.209,-0.445 1.509,1.308
3D body: height 6.25, standoff 6, extent 1.717,-0.445 2.017,1.308
3D body: height 6.25, standoff 6, extent 2.197,-0.445 2.497,1.308
3D body: height 6.25, standoff 6, extent 2.708,-0.445 3.007,1.308
3D body: height 6.25, standoff 6, extent 3.216,-0.445 3.515,1.308
3D body: height 6.25, standoff 6, extent 3.698,-0.445 3.998,1.308
3D body: height 6.25, standoff 6, extent 4.206,-0.445 4.506,1.308
3D body: height 6.25, standoff 6, extent 4.689,-0.445 4.989,1.308
3D body: height 6.25, standoff 6, extent 5.197,-0.445 5.497,1.308
3D body: height 7, standoff 6, extent -0.292,-9.335 0.008,-7.582
3D body: height 7, standoff 6, extent 0.191,-9.335 0.49,-7.582
3D body: height 7, standoff 6, extent 0.701,-9.335 1.001,-7.582
3D body: height 7, standoff 6, extent 1.209,-9.335 1.509,-7.582
3D body: height 7, standoff 6, extent 1.692,-9.335 1.991,-7.582
3D body: height 7, standoff 6, extent 2.2,-9.335 2.499,-7.582
3D body: height 7, standoff 6, extent 2.71,-9.335 3.01,-7.582
3D body: height 7, standoff 6, extent 3.19,-9.335 3.49,-7.582
3D body: height 7, standoff 6, extent 3.698,-9.335 3.998,-7.582
3D body: height 7, standoff 6, extent 4.206,-9.335 4.506,-7.582
3D body: height 7, standoff 6, extent 4.714,-9.322 5.014,-7.569
3D body: height 7, standoff 6, extent 5.199,-9.335 5.499,-7.582
3D body: height 7.35, standoff 7.25, extent -0.213,-1.736 0.188,-1.337
3D body: height 7.25, standoff 6, extent -0.897,-7.501 6.104,-0.5

## lpcxpresso lpc1114 [mm]
pads (54):
  oval 2.2x1.6 hole 0.9: 1(0,0) 2(0,-2.54) 3(0,-5.08) 4(0,-7.62) 5(0,-10.16) 6(0,-12.7) 7(0,-15.24) 8(0,-17.78) 9(0,-20.32) 10(0,-22.86) 11(0,-25.4) 12(0,-27.94) 13(0,-30.48) 14(0,-33.02) 15(0,-35.56) 16(0,-38.1) 17(0,-40.663) 18(0,-43.226) 19(0,-45.789) 20(0,-48.351) 21(0,-50.914) 22(0,-53.477) 23(0,-56.04) 24(0,-58.603) 25(0,-61.166) 26(0,-63.729) 27(0,-66.04) 28(22.86,0) 29(22.86,-2.54) 30(22.86,-5.08) 31(22.86,-7.62) 32(22.86,-10.16) 33(22.86,-12.7) 34(22.86,-15.24) 35(22.86,-17.78) 36(22.86,-20.32) 37(22.86,-22.86) 38(22.86,-25.4) 39(22.86,-27.94) 40(22.86,-30.48) 41(22.86,-33.02) 42(22.86,-35.56) 43(22.86,-38.1) 44(22.86,-40.64) 45(22.86,-43.18) 46(22.86,-45.72) 47(22.86,-48.26) 48(22.86,-50.8) 49(22.86,-53.34) 50(22.86,-55.88) 51(22.86,-58.42) 52(22.86,-60.96) 53(22.86,-63.5) 54(22.86,-66.04)
Top Overlay:
  lines w0.254: -5,-68.097 27.86,-68.097 27.86,4.801 -5,4.801 -5,-68.097
  text "45" at 24.638,-44.018 h1.52
  text "40" at 24.638,-31.344 h1.52
  text "35" at 24.638,-18.491 h1.52
  text "30" at 24.638,-5.842 h1.52
  text "25" at -4.394,-61.849 h1.52
  text "15" at -4.242,-36.297 h1.52
  text "5" at -4.115,-10.973 h1.52
  text "28" at 24.638,-0.787 h1.52
  text "50" at 24.638,-56.667 h1.52
  text "54" at 24.638,-66.7 h1.52
  text "27" at -4.267,-66.827 h1.52
  text "20" at -4.293,-49.124 h1.52
  text "10" at -4.064,-23.52 h1.52
  text "1" at -4.064,-0.61 h1.52
  text "LPCXpresso Board LPC1114" at 10.592,-9.246 h1.52

## LQFP_100 [mm]
pads (100):
  oval 1.55x0.25 smd: 1(-7.576,6.025) 2(-7.576,5.525) 3(-7.576,5.025) 4(-7.576,4.525) 5(-7.576,4.025) 6(-7.576,3.525) 7(-7.576,3.025) 8(-7.576,2.525) 9(-7.576,2.025) 10(-7.576,1.525) 11(-7.576,1.025) 12(-7.576,0.525) 13(-7.576,0.025) 14(-7.576,-0.475) 15(-7.576,-0.975) 16(-7.576,-1.475) 17(-7.576,-1.975) 18(-7.576,-2.475) 19(-7.576,-2.975) 20(-7.576,-3.475) 21(-7.576,-3.975) 22(-7.576,-4.475) 23(-7.576,-4.975) 24(-7.576,-5.475) 25(-7.576,-5.975) 51(7.474,-5.975) 52(7.474,-5.475) 53(7.474,-4.975) 54(7.474,-4.475) 55(7.474,-3.975) 56(7.474,-3.475) 57(7.474,-2.975) 58(7.474,-2.475) 59(7.474,-1.975) 60(7.474,-1.475) 61(7.474,-0.975) 62(7.474,-0.475) 63(7.474,0.025) 64(7.474,0.525) 65(7.474,1.025) 66(7.474,1.525) 67(7.474,2.025) 68(7.474,2.525) 69(7.474,3.025) 70(7.474,3.525) 71(7.474,4.025) 72(7.474,4.525) 73(7.474,5.025) 74(7.474,5.525) 75(7.474,6.025)
  oval 0.25x1.55 smd: 26(-6.051,-7.5) 27(-5.551,-7.5) 28(-5.051,-7.5) 29(-4.551,-7.5) 30(-4.051,-7.5) 31(-3.551,-7.5) 32(-3.051,-7.5) 33(-2.551,-7.5) 34(-2.051,-7.5) 35(-1.551,-7.5) 36(-1.051,-7.5) 37(-0.551,-7.5) 38(-0.051,-7.5) 39(0.449,-7.5) 40(0.949,-7.5) 41(1.449,-7.5) 42(1.949,-7.5) 43(2.449,-7.5) 44(2.949,-7.5) 45(3.449,-7.5) 46(3.949,-7.5) 47(4.449,-7.5) 48(4.949,-7.5) 49(5.449,-7.5) 50(5.949,-7.5) 76(5.949,7.55) 77(5.449,7.55) 78(4.949,7.55) 79(4.449,7.55) 80(3.949,7.55) 81(3.449,7.55) 82(2.949,7.55) 83(2.449,7.55) 84(1.949,7.55) 85(1.449,7.55) 86(0.949,7.55) 87(0.449,7.55) 88(-0.051,7.55) 89(-0.551,7.55) 90(-1.051,7.55) 91(-1.551,7.55) 92(-2.051,7.55) 93(-2.551,7.55) 94(-3.051,7.55) 95(-3.551,7.55) 96(-4.051,7.55) 97(-4.551,7.55) 98(-5.051,7.55) 99(-5.551,7.55) 100(-6.051,7.55)
Top Overlay:
  circle w0.25: c-7.576,6.7 r0.125
  circle w0.6: c-5.401,5.375 r0.3
  lines w0.2: -6.401,-6.325 -6.401,6.375 6.299,6.375 6.299,-6.325 -6.401,-6.325
Mechanical 13:
  circle w0.1: c-6.151,6.125 r0.5
  lines w0.1: -7.051,-6.975 -7.051,7.025 6.949,7.025 6.949,-6.975 -7.051,-6.975
Mechanical 15:
  lines w0.1: -0.551,0.025 0.449,0.025 ; -0.051,-0.475 -0.051,0.525 ; -8.451,-8.375 -8.451,8.425 8.349,8.425 8.349,-8.375 -8.451,-8.375
3D body: height 1.6, standoff 0, extent -7.051,-6.975 6.949,7.025

## LW015B LUCENT [mm]
pads (5):
  rect 2.5x2.5 hole 1: 1(0,0) 4(20.32,7.6) 5(20.32,-2.55) 6(20.32,-12.7)
  oct 2.5x2.5 hole 1: 2(0,-5.09)
Top Overlay:
  lines w0.254: -2.2,-8.25 -0.2,-8.25 ; -2.2,2.75 -0.2,2.75 ; -1.2,-9.25 -1.2,-7.25 ; 15.8,-12.25 17.8,-12.25 ; 15.8,7.75 17.8,7.75 ; 16.8,-13.25 16.8,-11.25 ; -15.2,-14.25 ccw(c-14.2,-14.25) -14.2,-15.25 34.6,-15.25 ccw(c34.6,-14.25) 35.6,-14.25 35.6,9.15 ccw(c34.6,9.15) 34.6,10.15 -14.2,10.15 ccw(c-14.2,9.15) -15.2,9.15 -15.2,-14.25
  text "LW015B" at -12.2,6.75 h1.52
  text "OUT" at 22.8,-13.55 h1.52
  text "OUT" at 22.8,6.75 h1.52
  text "TRIM" at 22.8,-3.25 h1.52
  text "IN" at -5.2,-3.25 h1.52

## MB2S [mm]
pads (4):
  rect 1.27x2.032 smd: +(1.25,3.35) -(-1.232,3.364) AC1(-1.25,-3.3) AC2(1.25,-3.3)
Top Overlay:
  lines w0.254: -2.4,-1.875 -2.4,1.95 2.45,1.95 2.45,-1.875 -2.4,-1.875
  text "+" at 0.9,0.55 h1
  text "-" at -1.525,0.575 h1
  text "~" at 0.825,-1.925 h1
  text "~" at -1.475,-1.9 h1

## MCF_144LQF [mm]
pads (144):
  rect 1.75x0.3 smd: 1(-1.627,11.18) 2(-1.627,10.68) 3(-1.627,10.18) 4(-1.627,9.68) 5(-1.627,9.18) 6(-1.627,8.68) 7(-1.627,8.18) 8(-1.627,7.68) 9(-1.627,7.18) 10(-1.627,6.68) 11(-1.627,6.18) 12(-1.627,5.68) 13(-1.627,5.18) 14(-1.627,4.68) 15(-1.627,4.18) 16(-1.627,3.68) 17(-1.627,3.18) 18(-1.627,2.68) 19(-1.627,2.18) 20(-1.627,1.68) 21(-1.627,1.18) 22(-1.627,0.68) 23(-1.627,0.18) 24(-1.627,-0.32) 25(-1.627,-0.82) 26(-1.627,-1.32) 27(-1.627,-1.82) 28(-1.627,-2.32) 29(-1.627,-2.82) 30(-1.627,-3.32) 31(-1.627,-3.82) 32(-1.627,-4.32) 33(-1.627,-4.82) 34(-1.627,-5.32) 35(-1.627,-5.82) 36(-1.627,-6.32) 73(20.623,-6.32) 74(20.623,-5.82) 75(20.623,-5.32) 76(20.623,-4.82) 77(20.623,-4.32) 78(20.623,-3.82) 79(20.623,-3.32) 80(20.623,-2.82) 81(20.623,-2.32) 82(20.623,-1.82) 83(20.623,-1.32) 84(20.623,-0.82) 85(20.623,-0.32) 86(20.623,0.18) 87(20.623,0.68) 88(20.623,1.18) 89(20.623,1.68) 90(20.623,2.18) 91(20.623,2.68) 92(20.623,3.18) 93(20.623,3.68) 94(20.623,4.18) 95(20.623,4.68) 96(20.623,5.18) 97(20.623,5.68) 98(20.623,6.18) 99(20.623,6.68) 100(20.623,7.18) 101(20.623,7.68) 102(20.623,8.18) 103(20.623,8.68) 104(20.623,9.18) 105(20.623,9.68) 106(20.623,10.18) 107(20.623,10.68) 108(20.623,11.18)
  rect 0.3x1.75 smd: 37(0.748,-8.695) 38(1.248,-8.695) 39(1.748,-8.695) 40(2.248,-8.695) 41(2.748,-8.695) 42(3.248,-8.695) 43(3.748,-8.695) 44(4.248,-8.695) 45(4.748,-8.695) 46(5.248,-8.695) 47(5.748,-8.695) 48(6.248,-8.695) 49(6.748,-8.695) 50(7.248,-8.695) 51(7.748,-8.695) 52(8.248,-8.695) 53(8.748,-8.695) 54(9.248,-8.695) 55(9.748,-8.695) 56(10.248,-8.695) 57(10.748,-8.695) 58(11.248,-8.695) 59(11.748,-8.695) 60(12.248,-8.695) 61(12.748,-8.695) 62(13.248,-8.695) 63(13.748,-8.695) 64(14.248,-8.695) 65(14.748,-8.695) 66(15.248,-8.695) 67(15.748,-8.695) 68(16.248,-8.695) 69(16.748,-8.695) 70(17.248,-8.695) 71(17.748,-8.695) 72(18.248,-8.695) 109(18.248,13.555) 110(17.748,13.555) 111(17.248,13.555) 112(16.748,13.555) 113(16.248,13.555) 114(15.748,13.555) 115(15.248,13.555) 116(14.748,13.555) 117(14.248,13.555) 118(13.748,13.555) 119(13.248,13.555) 120(12.748,13.555) 121(12.248,13.555) 122(11.748,13.555) 123(11.248,13.555) 124(10.748,13.555) 125(10.248,13.555) 126(9.748,13.555) 127(9.248,13.555) 128(8.748,13.555) 129(8.248,13.555) 130(7.748,13.555) 131(7.248,13.555) 132(6.748,13.555) 133(6.248,13.555) 134(5.748,13.555) 135(5.248,13.555) 136(4.748,13.555) 137(4.248,13.555) 138(3.748,13.555) 139(3.248,13.555) 140(2.748,13.555) 141(2.248,13.555) 142(1.748,13.555) 143(1.248,13.555) 144(0.748,13.555)
Top Overlay:
  circle w0.25: c-1.632,11.88 r0.125
  lines w0.2: -0.352,-7.42 19.348,-7.42 19.348,12.28 -0.352,12.28 -0.352,-7.42
3D body: height 2, standoff 0, extent -0.352,-7.419 19.347,12.28

## ME LP [mm]
pads (16):
  rect 2.5x2.5 hole 1.4: 1(15.1,73.6) 1(24.3,92.1) 1(55.7,92.1) 1(64.9,73.6) 2(15.1,68.6) 2(24.3,87.1) 2(55.7,97.1) 2(64.9,78.6) 3(15.1,78.6) 3(24.3,97.1) 3(55.7,87.1) 3(64.9,68.6) 4(15.1,63.6) 4(24.3,82.1) 4(55.7,82.1) 4(64.9,63.6)
Top Overlay:
  lines w0.254: 1.5,0 1.5,63.05 ; 78.5,0 78.5,63.05 ; 0,0 40,0 80,0 80,63.05 76.5,63.05 76.5,66.1 67.3,66.1 67.3,84.7 58.1,84.7 58.1,99.3 40,99.3 21.9,99.3 21.9,84.7 12.7,84.7 12.7,66.1 3.5,66.1 3.5,63.05 0,63.05 0,0